# Altium footprint library AUDIO.PcbLib: 1 footprints
Each footprint in its own frame and in the unit in brackets; x right, y up, seen from the top. Pads: shape width x height; smd on the part's side, far side on the other; paste and mask are expansions set on the pad; w line width, h text height; cw(c..) or ccw(c..) is an arc to the next point about the centre after c.
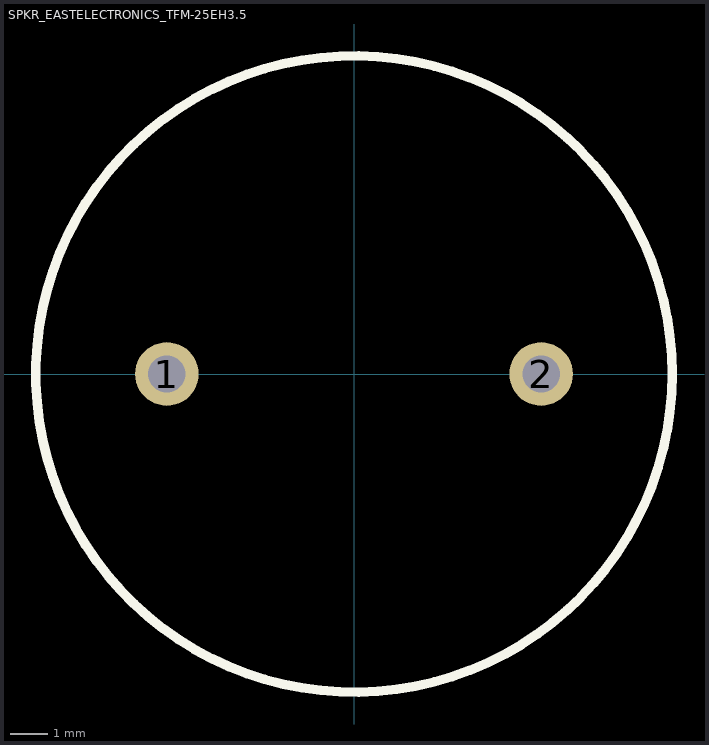
[diagram p0: the footprint, top view; thin cyan lines are the x and y axes]

## SPKR_EASTELECTRONICS_TFM-25EH3.5 [mm] "EXTERNAL-DRIVEN PIEZO TRANSDUCER"
height 8
pads (2):
  round 1.7 hole 1: 1(-5,0) 2(5,0)
Top Overlay:
  circle w0.254: c0,0 r8.5
3D body: height 8, standoff 0, extent -8.5,-8.497 8.5,8.497